# EAGLE library part R-ARRAY_8R (library F030NG)
CTS 742 Series 16 Terminations, 8 Resistors
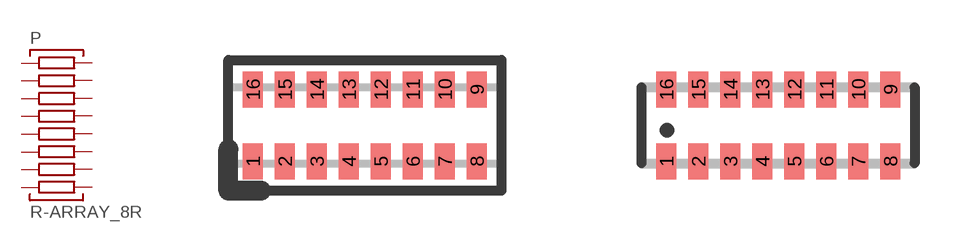
[diagram p21: symbol with the pads of CTS-742-16; footprints CTS-742-16, CTS-742-16NS]

Designator prefix P

## R-ARRAY_8R742-16  [CTS-742-16]
1  1  pas
2  2  pas
3  3  pas
4  4  pas
5  5  pas
6  6  pas
7  7  pas
8  8  pas
9  9  pas
10  10  pas
11  11  pas
12  12  pas
13  13  pas
14  14  pas
15  15  pas
16  16  pas

## R-ARRAY_8R742-16NS  [CTS-742-16NS]
Pads as for CTS-742-16

## Footprint CTS-742-16 (pad centres in mm)
CTS 742 Series 16 Terminations, 8 Resistors
smd 0.5 x 0.9: 1 -2.8,-0.9; 2 -2,-0.9; 3 -1.2,-0.9; 4 -0.4,-0.9; 5 0.4,-0.9; 6 1.2,-0.9; 7 2,-0.9; 8 2.8,-0.9; 9 2.8,0.9; 10 2,0.9; 11 1.2,0.9; 12 0.4,0.9; 13 -0.4,0.9; 14 -1.2,0.9; 15 -2,0.9; 16 -2.8,0.9

## Footprint CTS-742-16NS (pad centres in mm)
CTS 742 Series 16 Terminations, 8 Resistors
smd 0.5 x 0.9: 1 -2.8,-0.9; 2 -2,-0.9; 3 -1.2,-0.9; 4 -0.4,-0.9; 5 0.4,-0.9; 6 1.2,-0.9; 7 2,-0.9; 8 2.8,-0.9; 9 2.8,0.9; 10 2,0.9; 11 1.2,0.9; 12 0.4,0.9; 13 -0.4,0.9; 14 -1.2,0.9; 15 -2,0.9; 16 -2.8,0.9